# EAGLE library part TEENSY-LC (library MCU)
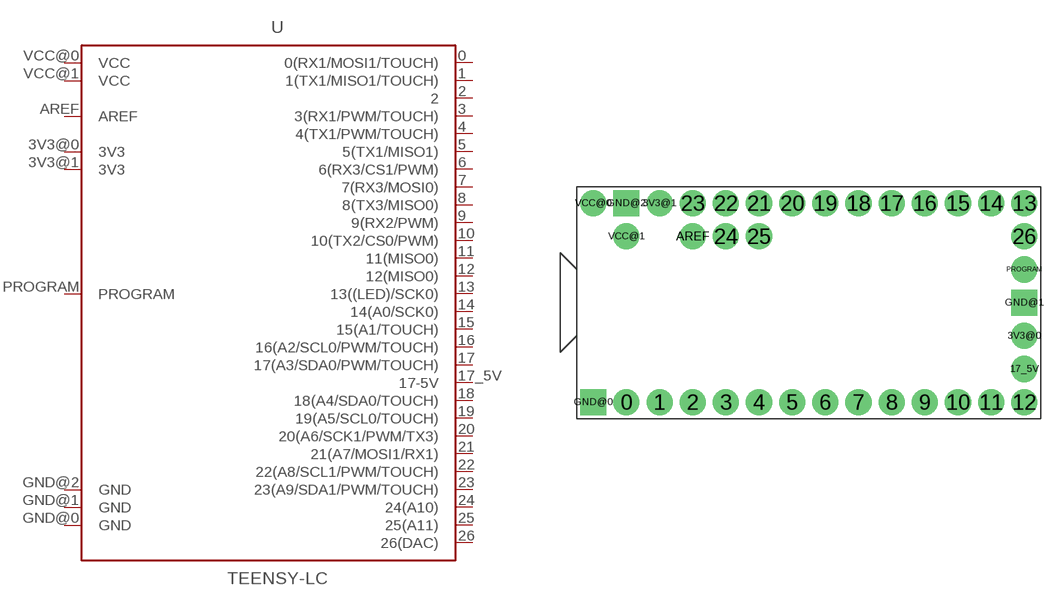
[diagram p6: symbol with the pads of TEENSY_LC; footprint TEENSY_LC]

Designator prefix U

## TEENSY-LC  [TEENSY_LC]
0  0(RX1/MOSI1/TOUCH)
1  1(TX1/MISO1/TOUCH)
2  2
3  3(RX1/PWM/TOUCH)
3V3@0  3V3
3V3@1  3V3
4  4(TX1/PWM/TOUCH)
5  5(TX1/MISO1)
6  6(RX3/CS1/PWM)
7  7(RX3/MOSI0)
8  8(TX3/MISO0)
9  9(RX2/PWM)
10  10(TX2/CS0/PWM)
11  11(MISO0)
12  12(MISO0)
13  13((LED)/SCK0)
14  14(A0/SCK0)
15  15(A1/TOUCH)
16  16(A2/SCL0/PWM/TOUCH)
17  17(A3/SDA0/PWM/TOUCH)
17_5V  17-5V
18  18(A4/SDA0/TOUCH)
19  19(A5/SCL0/TOUCH)
20  20(A6/SCK1/PWM/TX3)
21  21(A7/MOSI1/RX1)
22  22(A8/SCL1/PWM/TOUCH)
23  23(A9/SDA1/PWM/TOUCH)
24  24(A10)
25  25(A11)
26  26(DAC)
AREF  AREF
GND@0  GND
GND@1  GND
GND@2  GND
PROGRAM  PROGRAM
VCC@0  VCC
VCC@1  VCC

## Footprint TEENSY_LC (pad centres in mm)
Teensy LC
drill 1.05 pad 2: 0 -13.97,-7.62; 1 -11.43,-7.62; 2 -8.89,-7.62; 3 -6.35,-7.62; 3V3@0 16.51,-2.54; 3V3@1 -11.43,7.62; 4 -3.81,-7.62; 5 -1.27,-7.62; 6 1.27,-7.62; 7 3.81,-7.62; 8 6.35,-7.62; 9 8.89,-7.62; 10 11.43,-7.62; 11 13.97,-7.62; 12 16.51,-7.62; 13 16.51,7.62; 14 13.97,7.62; 15 11.43,7.62; 16 8.89,7.62; 17 6.35,7.62; 17_5V 16.51,-5.08; 18 3.81,7.62; 19 1.27,7.62; 20 -1.27,7.62; 21 -3.81,7.62; 22 -6.35,7.62; 23 -8.89,7.62; 24 -6.35,5.08; 25 -3.81,5.08; 26 16.51,5.08; AREF -8.89,5.08; PROGRAM 16.51,2.54; VCC@0 -16.51,7.62; VCC@1 -13.97,5.08
drill 1.05 pad 2 square: GND@0 -16.51,-7.62; GND@1 16.51,0; GND@2 -13.97,7.62